# Altium footprint library HORNET_MOTOR_CONTROLLER.PcbLib: 24 footprints (part 1 of 2)
Each footprint in its own frame and in the unit in brackets; x right, y up, seen from the top. Pads: shape width x height; smd on the part's side, far side on the other; paste and mask are expansions set on the pad; w line width, h text height; cw(c..) or ccw(c..) is an arc to the next point about the centre after c.
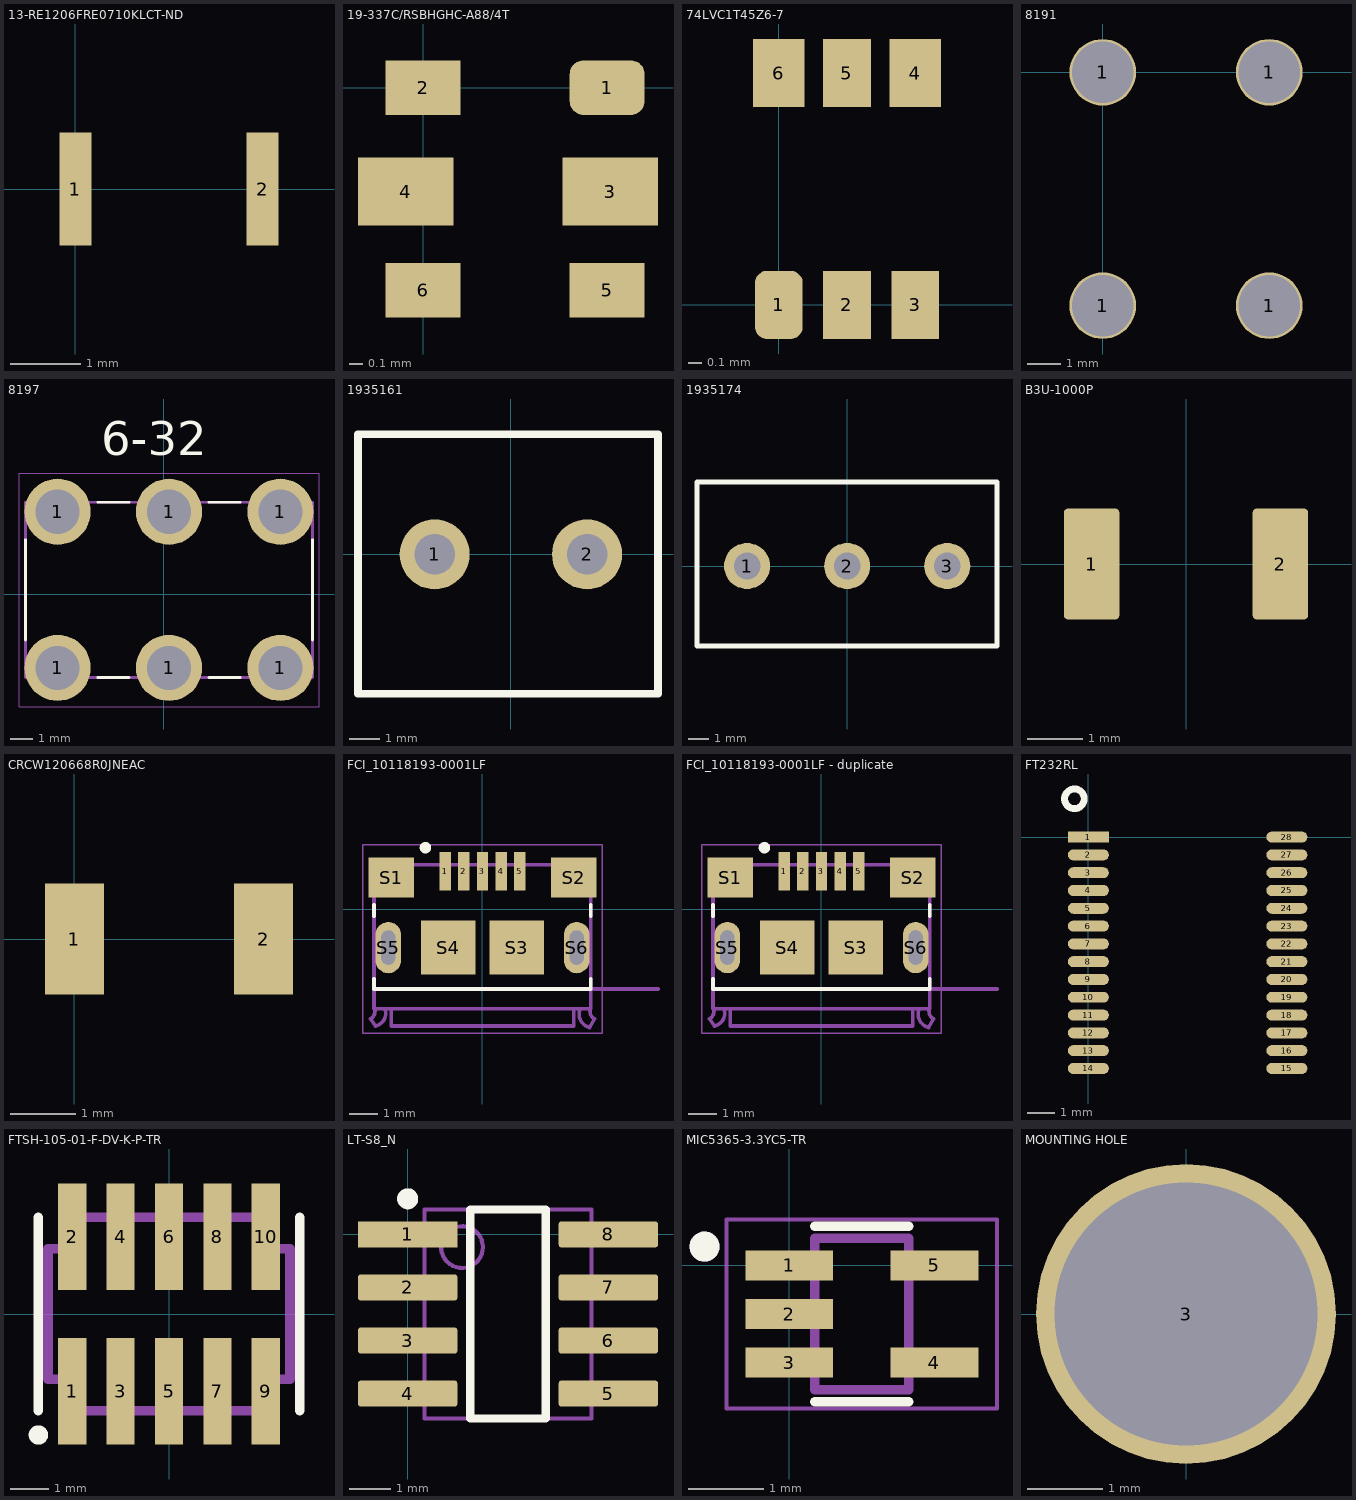
[diagram p0: the footprints below, top view; thin cyan lines are the x and y axes]

## 13-RE1206FRE0710KLCT-ND [mm]
pads (2):
  rect 0.45x1.6 smd: 1(0,0) 2(2.65,0)
3D body "RE1206FRE0710KL.STEP": height 0.65, standoff 0, extent -0.153,-0.8 2.947,0.8

## 19-337C/RSBHGHC-A88/4T [mm]
pads (6):
  rrect50% 0.55x0.4 smd: 1(1.35,0)
  rect 0.55x0.4 smd: 2(0,0) 5(1.35,-1.487) 6(0,-1.487)
  rect 0.7x0.5 smd: 3(1.373,-0.762) 4(-0.127,-0.762)
3D body "4T--3DModel-STEP-56544.STEP": height 0.5, standoff 0, extent -0.127,-1.558 1.473,0.042

## 74LVC1T45Z6-7 [mm]
pads (6):
  rrect50% 0.35x0.5 smd: 1(0,0)
  rect 0.35x0.5 smd: 2(0.5,0) 3(1,0) 5(0.5,1.7)
  rect 0.375x0.5 smd: 4(1,1.7) 6(0,1.7)

## 8191 [mm]
pads (4):
  round 2 hole 1.85: 1(0,-7.01) 1(0,0) 1(5,-7.01) 1(5,0)
3D body "User Library-Keystone_7693.STEP": height 8.2, standoff -5.1, extent -1.524,-8.119 6.476,1.007

## 8197 [mm]
pads (6):
  round 2.97 hole 1.98: 1(-4.762,-3.316) 1(-4.762,3.694) 1(0.238,-3.316) 1(0.238,3.694) 1(5.238,-3.316) 1(5.238,3.694)
Top Overlay:
  lines w0.127: -6.202,-2.061 -6.202,2.439 ; -2.962,-3.746 -1.562,-3.746 ; -2.962,4.124 -1.562,4.124 ; 2.038,-3.746 3.438,-3.746 ; 2.038,4.124 3.438,4.124 ; 6.678,-2.061 6.678,2.439
  text "6-32" at -2.794,6.223 h1.52
Mechanical 13:
  lines w0.127: -6.202,-3.746 6.678,-3.746 6.678,4.124 -6.202,4.124 -6.202,-3.746
Mechanical 15:
  lines w0.05: -6.497,-5.051 6.973,-5.051 6.973,5.429 -6.497,5.429 -6.497,-5.051

## 1935161 [mm] "TERM BLK 2POS SIDE ENTRY 5MM PCB"
pads (2):
  round 2.3 hole 1.325: 1(-2.5,0) 2(2.5,0)
Top Overlay:
  lines w0.254: -5.015,-4.572 4.826,-4.572 4.826,3.938 -5.015,3.938 -5.015,-4.572
3D body "1935161--3DModel-STEP-56544.STEP": height 11.41, standoff -3.49, extent -5.015,-5.062 5.385,3.938

## 1935174 [mm] "5 MM PITCH"
height 11.4
pads (3):
  round 2.3 hole 1.325: 1(-5,0) 2(0,0) 3(5,0)
Top Overlay:
  lines w0.254: 7.485,-4 7.485,4.2 -7.5,4.2 -7.5,-4 7.485,-4 ; 7.485,-4 7.485,-4
3D body "pxc_1935174_03_PT-1-5-3-5-0-H_3D.stp": height 11.41, standoff -3.49, extent -8.085,-4 7.485,5

## B3U-1000P [mm] "TACTILE SWITCH GREY"
pads (2):
  rrect15% 1x2 smd: 1(-1.7,0) 2(1.7,0)
3D body "b3u-1000p.stp": height 1.6, standoff 0, extent -2,-1.25 2,1.25

## CRCW120668R0JNEAC [mm]
pads (2):
  rect 0.9x1.7 smd: 1(0,0) 2(2.9,0)
3D body "CRCW120668R0JNEAC.STEP": height 0.65, standoff 0, extent -0.128,-0.775 2.922,0.775

## FCI_10118193-0001LF [mm]
pads (11):
  rect 0.4x1.35 smd: 1(-1.3,1.338) 2(-0.65,1.338) 3(0,1.338) 4(0.65,1.338) 5(1.3,1.338)
  rect 1.6x1.4 smd: S1(-3.2,1.112) S2(3.2,1.112)
  rect 1.9x1.9 smd: S3(1.2,-1.338) S4(-1.2,-1.338)
  oval 0.9x1.8 hole 0.5 slot 1.2 at 90 deg: S5(-3.3,-1.338) S6(3.3,-1.338)
Top Overlay:
  circle w0.2: c-2,2.163 r0.1
  lines w0.127: -3.8,-2.788 3.8,-2.788 ; -3.8,-2.738 -3.8,-2.438 ; -3.8,-0.238 -3.8,0.162 ; 3.8,-2.738 3.8,-2.438 ; 3.8,-0.238 3.8,0.162
Mechanical 13:
  lines w0.127: -3.75,-4.088 -3.93,-3.838 ccw(c-4.065,-3.572) -3.8,-3.437 ; -3.746,-4.087 ccw(c-3.85,-3.638) -3.401,-3.534 ; -3.2,-3.538 -3.2,-4.088 3.2,-4.088 3.2,-3.538 ; 3.401,-3.535 ccw(c3.875,-3.662) 3.748,-4.137 ; 3.75,-4.137 3.93,-3.838 cw(c4.065,-3.572) 3.8,-3.437 ; 6.15,-2.788 3.8,-2.788 ; -3.8,-3.438 -3.8,-3.488 3.8,-3.488 3.8,-2.788 ; -3.8,-3.438 -3.8,1.562 3.8,1.562 3.8,-2.788
  text "PCB END" at 4.75,-2.638 h0.41
Mechanical 15:
  lines w0.05: -4.2,-4.337 4.2,-4.337 4.2,2.262 -4.2,2.262 -4.2,-4.337
3D body "10118193-0001LF--3DModel-STEP-56544.STEP": height 2.8, standoff -0.8, extent -3.937,-4.066 3.923,1.645

## FCI_10118193-0001LF - duplicate [mm]
pads (13):
  rect 0.4x1.35 smd: 1(-1.3,1.338) 2(-0.65,1.338) 3(0,1.338) 4(0.65,1.338) 5(1.3,1.338)
  rect 1.6x1.4 smd: S1(-3.2,1.112) S2(3.2,1.112)
  rect 1.9x1.9 smd: S3(1.2,-1.338) S4(-1.2,-1.338)
  oval 0.9x1.8 hole 0.5 slot 1.2 at 90 deg: S5(-3.3,-1.338) S6(3.3,-1.338)
  round 0.5 hole 0.5 unplated: ""(-3.3,-1.338) ""(3.3,-1.338)
Top Overlay:
  circle w0.2: c-2,2.163 r0.1
  lines w0.127: -3.8,-2.788 3.8,-2.788 ; -3.8,-2.738 -3.8,-2.438 ; -3.8,-0.238 -3.8,0.162 ; 3.8,-2.738 3.8,-2.438 ; 3.8,-0.238 3.8,0.162
Mechanical 13:
  lines w0.127: -3.75,-4.088 -3.93,-3.838 ccw(c-4.065,-3.572) -3.8,-3.437 ; -3.746,-4.087 ccw(c-3.85,-3.638) -3.401,-3.534 ; -3.2,-3.538 -3.2,-4.088 3.2,-4.088 3.2,-3.538 ; 3.401,-3.535 ccw(c3.875,-3.662) 3.748,-4.137 ; 3.75,-4.137 3.93,-3.838 cw(c4.065,-3.572) 3.8,-3.437 ; 6.15,-2.788 3.8,-2.788 ; -3.8,-3.438 -3.8,-3.488 3.8,-3.488 3.8,-2.788 ; -3.8,-3.438 -3.8,1.562 3.8,1.562 3.8,-2.788
  text "PCB END" at 4.75,-2.638 h0.41
Mechanical 15:
  lines w0.05: -4.2,-4.337 4.2,-4.337 4.2,2.262 -4.2,2.262 -4.2,-4.337
3D body "10118193-0001LF--3DModel-STEP-56544.STEP": height 2.8, standoff -0.8, extent -3.937,-4.066 3.923,1.645

## FT232RL [mm]
pads (28):
  rect 1.5x0.4 smd: 1(0,0)
  oval 1.5x0.4 smd: 2(0,-0.65) 3(0,-1.3) 4(0,-1.95) 5(0,-2.6) 6(0,-3.25) 7(0,-3.9) 8(0,-4.55) 9(0,-5.2) 10(0,-5.85) 11(0,-6.5) 12(0,-7.15) 13(0,-7.8) 14(0,-8.45) 15(7.25,-8.45) 16(7.25,-7.8) 17(7.25,-7.15) 18(7.25,-6.5) 19(7.25,-5.85) 20(7.25,-5.2) 21(7.25,-4.55) 22(7.25,-3.9) 23(7.25,-3.25) 24(7.25,-2.6) 25(7.25,-1.95) 26(7.25,-1.3) 27(7.25,-0.65) 28(7.25,0)
Top Overlay:
  circle w0.254: c-0.508,1.397 r0.359
3D body "FT232RL-REEL--3DModel-STEP-56544.STEP": height 2, standoff 0, extent -0.09,-9.311 7.71,0.889

## FTSH-105-01-F-DV-K-P-TR [mil] "Samtec programming header 10 positions"
pads (10):
  rect 29x110 smd mask+2: 1(-100,-80) 2(-100,80) 3(-50,-80) 4(-50,80) 5(0,-80) 6(0,80) 7(50,-80) 8(50,80) 9(100,-80) 10(100,80)
Top Overlay:
  circle w10: c-135,-125 r5
  lines w10: -135,-100 -135,100 ; 135,-100 135,100
Mechanical 1:
  lines w10: -125,-67.5 -125,67.5 -100,67.5 -100,100 100,100 100,67.5 125,67.5 125,-67.5 100,-67.5 100,-100 -100,-100 -100,-67.5 -125,-67.5
3D body "FTSH-105-01-F-DV-K-TR--3DModel-STEP-56544.STEP": height 240.75, standoff -0.25, extent -125,-115 125,115

## LT-S8_N [mm] "SOP, 8-Leads, Body 4.9x3.9mm, Pitch 1.27mm, IPC Medium Density"
height 1.76
pads (8):
  rect 2.375x0.625 smd: 1(0,0)
  rrect20% 2.375x0.625 smd: 2(0,-1.27) 3(0,-2.54) 4(0,-3.81) 5(4.8,-3.81) 6(4.8,-2.54) 7(4.8,-1.27) 8(4.8,0)
Top Overlay:
  circle w0.25: c0,0.85 r0.125
  lines w0.2: 1.5,-4.405 3.3,-4.405 3.3,0.595 1.5,0.595 1.5,-4.405
Mechanical 13:
  circle w0.1: c1.3,-0.305 r0.5
  lines w0.1: 0.4,-4.405 4.4,-4.405 4.4,0.595 0.4,0.595 0.4,-4.405
3D body "SO-8.step": height 1.45, standoff 0, extent -0.511,-4.305 5.267,0.597

## MIC5365-3.3YC5-TR [mm]
pads (5):
  rect 1.17x0.4 smd: 1(0,0) 2(0,-0.65) 3(0,-1.3) 4(1.94,-1.3) 5(1.94,0)
Top Overlay:
  circle w0.2: c-1.13,0.25 r0.1
  lines w0.127: 0.345,-1.82 1.595,-1.82 ; 0.345,0.52 1.595,0.52
Mechanical 13:
  circle w0.2: c-1.13,0.25 r0.1
  lines w0.127: 0.345,-1.663 0.345,0.362 1.595,0.362 1.595,-1.663 0.345,-1.663
Mechanical 15:
  lines w0.05: -0.835,-1.913 -0.835,0.612 2.775,0.612 2.775,-1.913 -0.835,-1.913
3D body "SC-70_C5_MCH.step": height 1.09, standoff 0, extent -0.224,-1.755 2.164,0.455

## MOUNTING HOLE [mm]
pads (1):
  round 4 hole 3.5 unplated: 3(0,0)